# Altium schematic symbol library TLI493DA2B6HTSA1.SchLib: 1 symbol
Pins are listed as number, name and electrical type; pins without a type are passive.

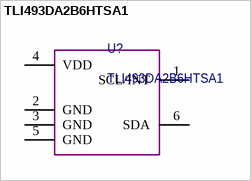
[diagram p0: symbol TLI493DA2B6HTSA1]

## TLI493DA2B6HTSA1
designator U?
pins: 1 SCL/INT, 2 GND, 3 GND, 4 VDD, 5 GND, 6 SDA